# EAGLE library part ADR3412ARJZ (library Analog_Device)
Micropower, High Accuracy Voltage References
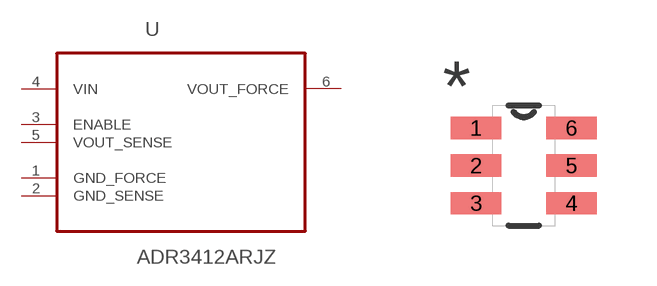
[diagram p6: symbol with the pads of SOT95P280X145-6N; footprint SOT95P280X145-6N]

Designator prefix U

## ADR3412ARJZ (MPN: ADR3412ARJZ; OC_FARNELL: 1843661; OC_NEWARK: 12T1265; PACKAGE: SOT-23-6; SUPPLIER: Analog Devices)  [SOT95P280X145-6N]
1  GND_FORCE  pas
2  GND_SENSE  pas
3  ENABLE  in
4  VIN  pwr
5  VOUT_SENSE  in
6  VOUT_FORCE  out

## Footprint SOT95P280X145-6N (pad centres in mm)
smd 1.27 x 0.559: 1 -1.194,0.94; 2 -1.194,0; 3 -1.194,-0.94; 4 1.194,-0.94; 5 1.194,0; 6 1.194,0.94